# EAGLE library part SI4925BDY (library MAX9812)
Vishay Siliconix Si4925BDY Dual P-Channel 30-V (D-S) MOSFET FEATURES: TrenchFET Power MOSFET Advanced High Cell Density Process APPLICATIONS: Load Switches ? Notebook PCs ? Desktop PCs ? Game Stations Please send any comments to: messi@users.sourceforge.net
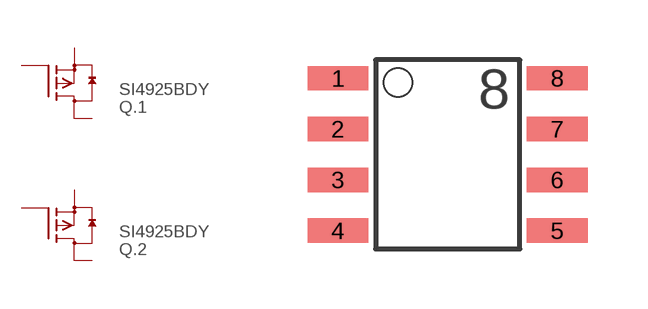
[diagram p107: symbol with the pads of SO-8; footprint SO-8]

Designator prefix Q; gates .1=IGFET-4-P-CH .2=IGFET-4-P-CH

## SI4925BDY  [SO-8]
1  .1:S  pas
2  .1:G  pas
3  .2:S  pas
4  .2:G  pas
5  .2:D  pas
6  .2:D  pas
7  .1:D  pas
8  .1:D  pas

## Footprint SO-8 (pad centres in mm)
small outline
smd 1.524 x 0.61: 1 -2.743,1.27; 2 -2.743,0; 3 -2.743,-1.27; 4 -2.743,-2.54; 5 2.743,-2.54; 6 2.743,-1.27; 7 2.743,0; 8 2.743,1.27